# Altium schematic symbol library IC.SchLib: 48 symbols (part 1 of 3)
Pins are listed as number, name and electrical type; pins without a type are passive.

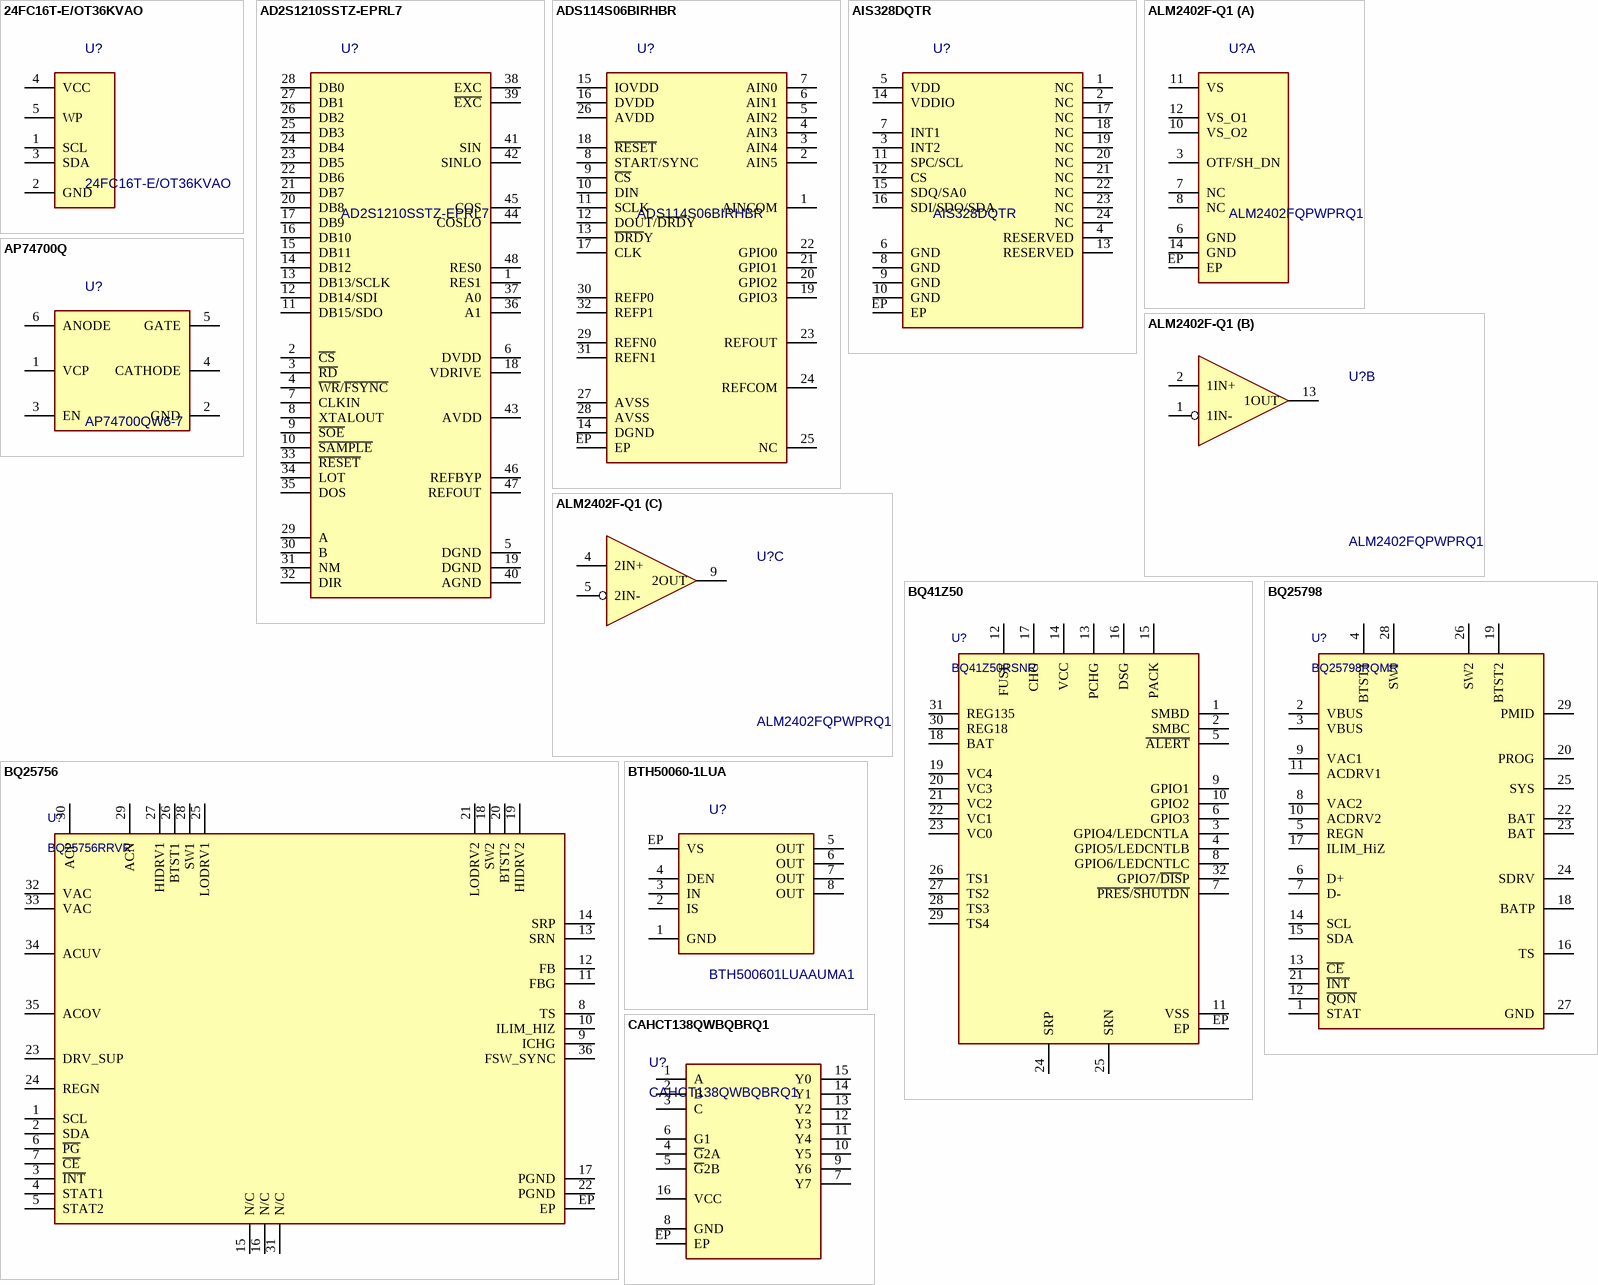
[diagram p0: symbols 24FC16T-E/OT36KVAO to CAHCT138QWBQBRQ1]

## 24FC16T-E/OT36KVAO
designator U?
IC EEPROM 16KBIT I2C SOT23-5 EEPROM Memory IC 16Kbit I2C 1 MHz 450 ns SOT-23-5; Manufacturer: Microchip; Supplier 1: DigiKey; Supplier Part Number 1: 150-24FC16T-E/OT36KVAOTR-ND; Supplier: DigiKey; Supplier Part Number: 150-24FC16T-E/OT36KVAOTR-ND; Manufacturer Part Number: 24FC16T-E/OT36KVAO; Category: Memory; Pricing: 3000=0,34 (USD); Projected EOL Date: 2049-08-26; Case/Package: SOT-23; Country of Assembly: Thailand; Country of Fabrication: United States of America; Country of Origin: Thailand; Export Control Classification Number (ECCN) Code: EAR99; Harmonized Tariff Schedule (HTS) Code: 8542.32.0051; Introduction Date: 2021-08-26; Lifecycle Status: Production; Pins: 5; ComponentLink1URL: https://datasheet.octopart.com:443/24FC16T-E-OT36KVAO-Microchip-datasheet-159614128.pdf?src-supplier=Microchip; ComponentLink1Description: https://datasheet.octopart.com:443/24FC16T-E-OT36KVAO-Microchip-datasheet-159614128.pdf?src-supplier=Microchip; ComponentLink2URL: https://datasheet.octopart.com:443/24FC16T-E-OT36KVAO-Microchip-datasheet-185420243.pdf?src-supplier=Microchip; ComponentLink2Description: https://datasheet.octopart.com:443/24FC16T-E-OT36KVAO-Microchip-datasheet-185420243.pdf?src-supplier=Microchip; ComponentLink3URL: https://datasheet.octopart.com:443/24FC16T-E-OT36KVAO-Microchip-datasheet-138123575.pdf?src-supplier=Augswan; ComponentLink3Description: https://datasheet.octopart.com:443/24FC16T-E-OT36KVAO-Microchip-datasheet-138123575.pdf?src-supplier=Augswan; ComponentLink4URL: http://sigma.octopart.com:80/188449423/materials_sheet/Microchip-24FC16T-E-OT36KVAO.pdf?src-supplier=Compliance+Statements; ComponentLink4Description: http://sigma.octopart.com:80/188449423/materials_sheet/Microchip-24FC16T-E-OT36KVAO.pdf?src-supplier=Compliance+Statements; ComponentLink5URL: http://sigma.octopart.com:80/conflict_mineral_statement/Microchip-company-68.pdf?src-supplier=Compliance+Statements; ComponentLink5Description: http://sigma.octopart.com:80/conflict_mineral_statement/Microchip-company-68.pdf?src-supplier=Compliance+Statements; ComponentLink6URL: http://sigma.octopart.com:80/conflict_mineral_statement/Microchip-company-69.pdf?src-supplier=Compliance+Statements; ComponentLink6Description: http://sigma.octopart.com:80/conflict_mineral_statement/Microchip-company-69.pdf?src-supplier=Compliance+Statements; ComponentLink7URL: http://sigma.octopart.com:80/reach_statement/Microchip-company-70.pdf?src-supplier=Compliance+Statements; ComponentLink7Description: http://sigma.octopart.com:80/reach_statement/Microchip-company-70.pdf?src-supplier=Compliance+Statements; ComponentLink8URL: http://sigma.octopart.com:80/rohs_statement/Microchip-company-71.pdf?src-supplier=Compliance+Statements; ComponentLink8Description: http://sigma.octopart.com:80/rohs_statement/Microchip-company-71.pdf?src-supplier=Compliance+Statements
footprint SOT-23-5 (5-Pin, Small Outline Transistor  Plastic Package (SOT23))
pins: 1 SCL, 2 GND, 3 SDA, 4 VCC, 5 WP

## AD2S1210SSTZ-EPRL7
designator U?
Variable Resolution, 10-Bit to 16-Bit R/D Converter with Reference Oscillator; Manufacturer: Analog Devices; Manufacturer Lifecycle Status: PRODUCTION; Interface: Parallel; Max Supply Voltage: 5.25V; Min Supply Voltage: 2.3V; Number of Channels: 2; Number of Converters: 1; Supplier 1: DigiKey; Supplier Part Number 1: 505-AD2S1210SSTZ-EPRL7CT-ND; Supplier: DigiKey; Supplier Part Number: 505-AD2S1210SSTZ-EPRL7CT-ND; Manufacturer Part Number: AD2S1210SSTZ-EPRL7; RoHS: Compliant; Category: Analog to Digital Converters (ADCs); Stock: 1388; Pricing: 1=36,68, 10=27,104, 25=24,95 (USD); Height: 1.6mm; Lifecycle Status: Production; Max Operating Temperature: 125°C; Min Operating Temperature: -40°C; Pins: 48; Schedule B: 8542390000, 8542390000|8542390000|8542390000|8542390000|8542390000|8542390000|8542390000|8542390000|8542390000|8542390000|8542390000|8542390000|8542390000|8542390000|8542390000|8542390000|8542390000|8542390000|8542390000|8542390000|8542390000|8542390000|8542390000|85; ComponentLink1URL: https://octopart.com:443/opatz8j6/c1?t=k6fJq6adrThdFycxtWTAnGFkOg80_DDUf2LogCT04gbzbe5BdBYrLFXnxFNandYyDPTV6rZWvFV2u5dAnLu4JsdXWEnecjpqc8hWMCwqGekMMp6kHhXDZa9P5HJITyOD5-VOaIhH71EaW9V9387lyfDJyPC-cQ1uiwGWwiloigfyQoUQQpcB8iB8RNLaBlcKqWrCL5SUsZXmx1U_xgDZKDZnY-eyE1vsltANIZMxL3YaJqaBAjg57PlAWL_CwrTWUsNp9kqOjzd23eczO6wHPI3Gh1TFdUTDlWJM4gP7Q3B-9ihoeQ81fcS2&src-supplier=Analog+Devices; ComponentLink1Description: https://octopart.com:443/opatz8j6/c1?t=k6fJq6adrThdFycxtWTAnGFkOg80_DDUf2LogCT04gbzbe5BdBYrLFXnxFNandYyDPTV6rZWvFV2u5dAnLu4JsdXWEnecjpqc8hWMCwqGekMMp6kHhXDZa9P5HJITyOD5-VOaIhH71EaW9V9387lyfDJyPC-cQ1uiwGWwiloigfyQoUQQpcB8iB8RNLaBlcKqWrCL5SUsZXmx1U_xgDZKDZnY-eyE1vsltANIZMxL3YaJqaBAjg57PlAWL_CwrTWUsNp9kqOjzd23eczO6wHPI3Gh1TFdUTDlWJM4gP7Q3B-9ihoeQ81fcS2&src-supplier=Analog+Devices; ComponentLink2URL: https://datasheet.octopart.com:443/AD2S1210SSTZ-EPRL7-Analog-Devices-datasheet-155502637.pdf?src-supplier=Upverter; ComponentLink2Description: https://datasheet.octopart.com:443/AD2S1210SSTZ-EPRL7-Analog-Devices-datasheet-155502637.pdf?src-supplier=Upverter; ComponentLink3URL: https://sigma.octopart.com:443/138896181/technical_drawing/Analog-Devices-AD2S1210SSTZ-EPRL7.pdf?src-supplier=Upverter; ComponentLink3Description: https://sigma.octopart.com:443/138896181/technical_drawing/Analog-Devices-AD2S1210SSTZ-EPRL7.pdf?src-supplier=Upverter; ComponentLink4URL: https://datasheet.octopart.com:443/AD2S1210SSTZ-EPRL7-Analog-Devices-datasheet-15541385.pdf?src-supplier=SHENGYU+ELECTRONICS; ComponentLink4Description: https://datasheet.octopart.com:443/AD2S1210SSTZ-EPRL7-Analog-Devices-datasheet-15541385.pdf?src-supplier=SHENGYU+ELECTRONICS; ComponentLink5URL: http://sigma.octopart.com:80/conflict_mineral_statement/Analog-Devices-company-33.pdf?src-supplier=Compliance+Statements; ComponentLink5Description: http://sigma.octopart.com:80/conflict_mineral_statement/Analog-Devices-company-33.pdf?src-supplier=Compliance+Statements; ComponentLink6URL: https://octopart.com:443/opatz8j6/c1?t=bUe-dHj52XTV9pQd6nvf8dvS-SlRDfG4kQbxo-JYlAUIf5xyTYN7Z74yZGolmkEVrRt14p2BUM1wYeKEmZ3p_PjBWAA9WCOR7G2CpJiKyGnar8Vuh7Hn9xVCu4BotM6DQhgv_nRphq5yYxQKxMDDqcZDafTpRiVNhaQkisKsT5PHNe5ktrcX3E6RzgxdIKQpGzV0TbFFt98g9YpT0LzNZjnccmwLyscWakWMjV_IP_gC4saAMPg4JPa585gSA3GixtayfKwqboOU7rvKB-6P3cz7o3LBbqMbDrEzvUjUsAv5-Xk-PQxoKxCz&src-supplier=Compliance+Statements; ComponentLink6Description: https://octopart.com:443/opatz8j6/c1?t=bUe-dHj52XTV9pQd6nvf8dvS-SlRDfG4kQbxo-JYlAUIf5xyTYN7Z74yZGolmkEVrRt14p2BUM1wYeKEmZ3p_PjBWAA9WCOR7G2CpJiKyGnar8Vuh7Hn9xVCu4BotM6DQhgv_nRphq5yYxQKxMDDqcZDafTpRiVNhaQkisKsT5PHNe5ktrcX3E6RzgxdIKQpGzV0TbFFt98g9YpT0LzNZjnccmwLyscWakWMjV_IP_gC4saAMPg4JPa585gSA3GixtayfKwqboOU7rvKB-6P3cz7o3LBbqMbDrEzvUjUsAv5-Xk-PQxoKxCz&src-supplier=Compliance+Statements
footprint LQFP48 (48 Pin, Body 7x7x1.4)
pins: 1 RES1, 2 ~{CS}, 3 ~{RD}, 4 ~{WR}/~{FSYNC}, 5 DGND, 6 DVDD, 7 CLKIN, 8 XTALOUT, 9 ~{SOE}, 10 ~{SAMPLE}, 11 DB15/SDO, 12 DB14/SDI, 13 DB13/SCLK, 14 DB12, 15 DB11, 16 DB10, 17 DB9, 18 VDRIVE, 19 DGND, 20 DB8, 21 DB7, 22 DB6, 23 DB5, 24 DB4, 25 DB3, 26 DB2, 27 DB1, 28 DB0, 29 A, 30 B, 31 NM, 32 DIR, 33 ~{RESET}, 34 LOT, 35 DOS, 36 A1, 37 A0, 38 EXC, 39 ~{EXC}, 40 AGND, 41 SIN, 42 SINLO, 43 AVDD, 44 COSLO, 45 COS, 46 REFBYP, 47 REFOUT, 48 RES0

## ADS114S06BIRHBR
designator U?
IC ADC 16BIT SIGMA-DELTA 32VQFN; Manufacturer: Texas Instruments; Supplier: Digikey; Supplier Part Number: 296-50878-2-ND; Manufacturer Part Number: ADS114S06BIRHBR; RoHS: Yes; Category: Analog to Digital Converters (ADCs); Pricing: 3000=3,76815 (USD); ComponentLink1URL: http://www.ti.com/lit/ds/symlink/ads114s06b.pdf?src-supplier=Digikey; ComponentLink1Description: http://www.ti.com/lit/ds/symlink/ads114s06b.pdf?src-supplier=Digikey; ComponentLink2URL: http://www.ti.com/lit/pdf/slyy041?src-supplier=Digikey; ComponentLink2Description: http://www.ti.com/lit/pdf/slyy041?src-supplier=Digikey; Supplier 1: Digikey; Supplier Part Number 1: 296-50878-2-ND
footprint VQFN32 (VQFN, 32-Leads, Body 5x5mm)
pins: 1 AINCOM, 2 AIN5, 3 AIN4, 4 AIN3, 5 AIN2, 6 AIN1, 7 AIN0, 8 START/SYNC, 9 ~{CS}, 10 DIN, 11 SCLK, 12 DOUT/~{DRD}Y, 13 ~{DRD}Y, 14 DGND, 15 IOVDD, 16 DVDD, 17 CLK, 18 ~{RESET}, 19 GPIO3, 20 GPIO2, 21 GPIO1, 22 GPIO0, 23 REFOUT, 24 REFCOM, 25 NC, 26 AVDD, 27 AVSS, 28 AVSS, 29 REFN0, 30 REFP0, 31 REFN1, 32 REFP1, EP

## AIS328DQTR
designator U?
High-performance ultra low-power 3-axis accelerometer | ACCELEROMETER 2-8G I2C/SPI 24QFN; Manufacturer: STMicroelectronics; Axis: X, Y, Z; Bandwidth: 500Hz; Max Supply Voltage: 3.6V; Min Supply Voltage: 2.4V; Nominal Supply Current: 450µA; Number of Circuits: 1; Operating Supply Voltage: 3.3V; Output Type: Digital; Supplier 1: DigiKey; Supplier Part Number 1: 497-13219-1-ND; Supplier: DigiKey; Supplier Part Number: 497-13219-1-ND; Manufacturer Part Number: AIS328DQTR; RoHS: Compliant; Category: Accelerometers; Stock: 11747; Pricing: 1=7,44, 5=6,716, 10=6,444, 25=6,1204, 50=5,8992, 100=5,6965, 500=5,508 (USD); Case/Package: QFN; China RoHS: Compliant; Contact Plating: Tin; Height - Seated (Max): 1.85mm; Lead Free: Lead Free; Length: 4mm; Lifecycle Status: Production; Max Operating Temperature: 105°C; Min Operating Temperature: -40°C; Mounting Technology: Surface Mount; Pins: 24; Number of Terminals: 24; Packaging: Tape & Reel; Radiation Hardening: No; REACH SVHC: Yes; Schedule B: 8542390000, 8542390000|8542390000|8542390000|8542390000|8542390000|8542390000|8542390000|8542390000|8542390000|8542390000|8542390000|8542390000|8542390000|8542390000|8542390000|8542390000|8542390000|8542390000|8542390000|8542390000|8542390000|8542390000|8542390000|85; Terminal Pitch: 500µm; Width: 4mm; ComponentLink1URL: https://datasheet.octopart.com:443/AIS328DQTR-STMicroelectronics-datasheet-12523467.pdf?src-supplier=Newark; ComponentLink1Description: https://datasheet.octopart.com:443/AIS328DQTR-STMicroelectronics-datasheet-12523467.pdf?src-supplier=Newark; ComponentLink2URL: https://datasheet.octopart.com:443/AIS328DQTR-STMicroelectronics-datasheet-10836675.pdf?src-supplier=Factory+Futures; ComponentLink2Description: https://datasheet.octopart.com:443/AIS328DQTR-STMicroelectronics-datasheet-10836675.pdf?src-supplier=Factory+Futures; ComponentLink3URL: https://datasheet.octopart.com:443/AIS328DQTR-STMicroelectronics-datasheet-141402747.pdf?src-supplier=element14+APAC; ComponentLink3Description: https://datasheet.octopart.com:443/AIS328DQTR-STMicroelectronics-datasheet-141402747.pdf?src-supplier=element14+APAC
footprint VQFN24 (VQFN, 16-Leads, Body 4x4mm)
pins: 1 NC, 2 NC, 3 INT2, 4 RESERVED, 5 VDD, 6 GND, 7 INT1, 8 GND, 9 GND, 10 GND, 11 SPC/SCL, 12 CS, 13 RESERVED, 14 VDDIO, 15 SDQ/SA0, 16 SDI/SDO/SDA, 17 NC, 18 NC, 19 NC, 20 NC, 21 NC, 22 NC, 23 NC, 24 NC, EP

## ALM2402F-Q1
designator U?, comment ALM2402FQPWPRQ1
Dual operational amplifier with high current output and slew rate 14-HTSSOP -40 to 125; Manufacturer: Texas Instruments; Manufacturer Lifecycle Status: ACTIVE; Input Bias Current: 3.5nA; Input Offset Voltage (Vos): 1mV; Max Supply Voltage: 16V; Min Supply Voltage: 4.5V; Number of Channels: 2; Output Current per Channel: 400mA; Response Time: 2µs; Voltage Gain: 93dB; Supplier 1: DigiKey; Supplier Part Number 1: 296-ALM2402FQPWPRQ1CT-ND; Supplier: DigiKey; Supplier Part Number: 296-ALM2402FQPWPRQ1CT-ND; Manufacturer Part Number: ALM2402FQPWPRQ1; RoHS: Compliant; Category: Amplifiers - Op Amps, Buffer, Instrumentation; Stock: 2833; Pricing: 1=3,33, 10=2,502, 25=2,2952, 100=2,0672, 250=1,95848, 500=1,89296, 1000=1,83904 (USD); Ambient Temperature Range High: 125°C; Height: 1.2mm; Length: 5mm; Lifecycle Status: Production; Max Operating Temperature: 125°C; Min Operating Temperature: -40°C; Pins: 14; Thickness: 1mm; Width: 4.4mm; ComponentLink1URL: https://sigma.octopart.com:443/159569814/technical_drawing/Texas-Instruments-ALM2402FQPWPRQ1.pdf?src-supplier=Texas+Instruments; ComponentLink1Description: https://sigma.octopart.com:443/159569814/technical_drawing/Texas-Instruments-ALM2402FQPWPRQ1.pdf?src-supplier=Texas+Instruments; ComponentLink2URL: https://octopart.com:443/opatz8j6/c1?t=ZPJvvuPEpGpES_y9EoHHU01kErOd9eZN7Gx7z2LTZC5bpM9zJnn1LW-JbGqNri5mz2O5lzJ6UhfOc46BO5zOXJrvDKm0VlnxasqbOLQLOgbPoqEdQG3t9SYm2umos89xdDxf0XR27TUST3JNQlDir6P_KbZ1PxZHW9d-RdisXjF-EWsCDIFtIXJ6PS1KiiVKRk2qpXgEQkvnhlyRkUvVqJJgydVmn0OgYlFDpXYimEwaFlUpuIdaDGZmuFo_-uwRGj4YbJSrjYeBWO0Q_-UyrcG1wvn-j-xBbbnvHOa98eOF4czOQdpe2uraEiOfYVpG4pgI5ze8N1Yo4dbsKj3lJ-AfM_D9BxtgFVry6fSkeAtcCVjhbb--6O4yKaCOhRt7Vqt9W7T5dZ7d6Q&src-supplier=Texas+Instruments; ComponentLink2Description: https://octopart.com:443/opatz8j6/c1?t=ZPJvvuPEpGpES_y9EoHHU01kErOd9eZN7Gx7z2LTZC5bpM9zJnn1LW-JbGqNri5mz2O5lzJ6UhfOc46BO5zOXJrvDKm0VlnxasqbOLQLOgbPoqEdQG3t9SYm2umos89xdDxf0XR27TUST3JNQlDir6P_KbZ1PxZHW9d-RdisXjF-EWsCDIFtIXJ6PS1KiiVKRk2qpXgEQkvnhlyRkUvVqJJgydVmn0OgYlFDpXYimEwaFlUpuIdaDGZmuFo_-uwRGj4YbJSrjYeBWO0Q_-UyrcG1wvn-j-xBbbnvHOa98eOF4czOQdpe2uraEiOfYVpG4pgI5ze8N1Yo4dbsKj3lJ-AfM_D9BxtgFVry6fSkeAtcCVjhbb--6O4yKaCOhRt7Vqt9W7T5dZ7d6Q&src-supplier=Texas+Instruments; ComponentLink3URL: https://sigma.octopart.com:443/49250594/technical_drawing/Texas-Instruments-ALM2402FQPWPRQ1.pdf?src-supplier=Texas+Instruments; ComponentLink3Description: https://sigma.octopart.com:443/49250594/technical_drawing/Texas-Instruments-ALM2402FQPWPRQ1.pdf?src-supplier=Texas+Instruments; ComponentLink4URL: https://datasheet.octopart.com:443/ALM2402FQPWPRQ1-Texas-Instruments-datasheet-151121670.pdf?src-supplier=SHENGYU+ELECTRONICS; ComponentLink4Description: https://datasheet.octopart.com:443/ALM2402FQPWPRQ1-Texas-Instruments-datasheet-151121670.pdf?src-supplier=SHENGYU+ELECTRONICS; ComponentLink5URL: http://sigma.octopart.com:80/conflict_mineral_statement/Texas-Instruments-company-63.pdf?src-supplier=Compliance+Statements; ComponentLink5Description: http://sigma.octopart.com:80/conflict_mineral_statement/Texas-Instruments-company-63.pdf?src-supplier=Compliance+Statements; ComponentLink6URL: http://sigma.octopart.com:80/reach_statement/Texas-Instruments-company-64.pdf?src-supplier=Compliance+Statements; ComponentLink6Description: http://sigma.octopart.com:80/reach_statement/Texas-Instruments-company-64.pdf?src-supplier=Compliance+Statements
footprint TSSOP-14-EP (14-TSSOP (0.173", 4.40mm Width))
part A pins: 3 OTF/SH_DN, 6 GND, 7 NC, 8 NC, 10 VS_O2, 11 VS, 12 VS_O1, 14 GND, EP
part B pins: 1 1IN-, 2 1IN+, 13 1OUT
part C pins: 4 2IN+, 5 2IN-, 9 2OUT

## AP74700Q
designator U?, comment AP74700QW6-7
LOAD SWITCH SOT26 T&R 3K; Manufacturer: Diodes; Number of Channels: 1; Supplier 1: Digikey; Supplier Part Number 1: 31-AP74700QW6-7CT-ND; Supplier: Digikey; Supplier Part Number: 31-AP74700QW6-7CT-ND; Manufacturer Part Number: AP74700QW6-7; RoHS: No; Category: Uncategorized; Stock: 1056; Pricing: 1=1,23, 10=0,748, 25=0,6224, 100=0,4805, 250=0,41084, 500=0,36796, 1000=0,33204 (USD); ComponentLink1URL: https://datasheet.octopart.com/AP74700QW6-7-Diodes-Inc.-datasheet-165818440.pdf?src-supplier=Future+Electronics; ComponentLink1Description: https://datasheet.octopart.com/AP74700QW6-7-Diodes-Inc.-datasheet-165818440.pdf?src-supplier=Future+Electronics
footprint SOT26 (SOT-26 - 6pin, 3x3.1mm)
pins: 1 VCP, 2 GND, 3 EN, 4 CATHODE, 5 GATE, 6 ANODE

## BQ41Z50
designator U?, comment BQ41Z50RSNR
2 to 4 series Li-ion highly integrated battery fuel gauge and protector 32-QFN -40 to 85; Manufacturer: Texas Instruments; Manufacturer Lifecycle Status: ACTIVE; Supplier 1: DigiKey; Supplier Part Number 1: 296-BQ41Z50RSNRCT-ND; Supplier: DigiKey; Supplier Part Number: 296-BQ41Z50RSNRCT-ND; Manufacturer Part Number: BQ41Z50RSNR; RoHS: Compliant; Category: Battery Management; Stock: 1851; Pricing: 1=5,55, 10=4,246, 25=3,9192, 100=3,5599, 250=3,38876, 500=3,28558, 1000=3,20063 (USD); Height: 800µm; Length: 4mm; Lifecycle Status: Production; Pins: 32; Thickness: 750µm; Width: 4mm; ComponentLink1URL: https://sigma.octopart.com:443/189718236/technical_drawing/Texas-Instruments-BQ41Z50RSNR.pdf?src-supplier=Texas+Instruments; ComponentLink1Description: https://sigma.octopart.com:443/189718236/technical_drawing/Texas-Instruments-BQ41Z50RSNR.pdf?src-supplier=Texas+Instruments; ComponentLink2URL: https://octopart.com:443/opatz8j6/c1?t=TSHOvo4lcCG09GQtGsyYGYrG5ebfY15oncaDagXwiw1dRk6UlXLULpBPciz2aRybJtMUn7Uj9XPnsGP7mBmdYw3-fd3ZaiqP3piYkPBcaeP4ZrfppAvWOsNsBrkaiauqSTo1ezVDrtljwgKD7vryttAQkyfgveS-TB0Xea2x2If99O1EXmgW--o9g_JHmgDGhVDNqzp4jgizunIPmWB0k021L5mOS6yvKjicdbQBFttyVRdgFGc1RtNCu9CLkop523qEj2pXpYzj5dV3-n9CjYtRfYYrXibyoob4tWijr7bHacxq_PqsAC283w4DVDz-wVBSFOmveujaasoD3Bs_tf-SbQsLNg8Dj1iKSZfS1O68xdoLb5h6LxNVt6LDhmI7fwPEFQQZ&src-supplier=Texas+Instruments; ComponentLink2Description: https://octopart.com:443/opatz8j6/c1?t=TSHOvo4lcCG09GQtGsyYGYrG5ebfY15oncaDagXwiw1dRk6UlXLULpBPciz2aRybJtMUn7Uj9XPnsGP7mBmdYw3-fd3ZaiqP3piYkPBcaeP4ZrfppAvWOsNsBrkaiauqSTo1ezVDrtljwgKD7vryttAQkyfgveS-TB0Xea2x2If99O1EXmgW--o9g_JHmgDGhVDNqzp4jgizunIPmWB0k021L5mOS6yvKjicdbQBFttyVRdgFGc1RtNCu9CLkop523qEj2pXpYzj5dV3-n9CjYtRfYYrXibyoob4tWijr7bHacxq_PqsAC283w4DVDz-wVBSFOmveujaasoD3Bs_tf-SbQsLNg8Dj1iKSZfS1O68xdoLb5h6LxNVt6LDhmI7fwPEFQQZ&src-supplier=Texas+Instruments; ComponentLink3URL: http://sigma.octopart.com:80/conflict_mineral_statement/Texas-Instruments-company-63.pdf?src-supplier=Compliance+Statements; ComponentLink3Description: http://sigma.octopart.com:80/conflict_mineral_statement/Texas-Instruments-company-63.pdf?src-supplier=Compliance+Statements; ComponentLink4URL: http://sigma.octopart.com:80/reach_statement/Texas-Instruments-company-64.pdf?src-supplier=Compliance+Statements; ComponentLink4Description: http://sigma.octopart.com:80/reach_statement/Texas-Instruments-company-64.pdf?src-supplier=Compliance+Statements
footprint VQFN32 (VQFN, 32-Leads, Body 5x5mm)
pins: 1 SMBD, 2 SMBC, 3 GPIO4/LEDCNTLA, 4 GPIO5/LEDCNTLB, 5 ~{ALERT}, 6 GPIO3, 7 ~{PRES}/~{SHUTDN}, 8 GPIO6/LEDCNTLC, 9 GPIO1, 10 GPIO2, 11 VSS, 12 FUSE, 13 PCHG, 14 VCC, 15 PACK, 16 DSG, 17 CHG, 18 BAT, 19 VC4, 20 VC3, 21 VC2, 22 VC1, 23 VC0, 24 SRP, 25 SRN, 26 TS1, 27 TS2, 28 TS3, 29 TS4, 30 REG18, 31 REG135, 32 GPIO7/~{DIS}P, EP

## BQ25756
designator U?, comment BQ25756RRVR
STAND-ALONE OR IC CONTROLLED 70- Charger IC Multi-Chemistry 36-VQFN (5x6); Manufacturer: Texas Instruments; Manufacturer Lifecycle Status: ACTIVE; Supplier 1: DigiKey; Supplier Part Number 1: 296-BQ25756RRVRCT-ND; Supplier: DigiKey; Supplier Part Number: 296-BQ25756RRVRCT-ND; Manufacturer Part Number: BQ25756RRVR; RoHS: Compliant; Category: Battery Management; Stock: 3338; Pricing: 1=7,03, 10=5,423, 25=5,02, 100=4,5774, 250=4,36628, 500=4,23908, 1000=4,13436 (USD); Case/Package: VQFN; Height: 0m; Length: 6mm; Lifecycle Status: Production; Pins: 36; Thickness: 900µm; Width: 5mm; ComponentLink1URL: https://sigma.octopart.com:443/175475772/technical_drawing/Texas-Instruments-BQ25756RRVR.pdf?src-supplier=Texas+Instruments; ComponentLink1Description: https://sigma.octopart.com:443/175475772/technical_drawing/Texas-Instruments-BQ25756RRVR.pdf?src-supplier=Texas+Instruments; ComponentLink2URL: https://octopart.com:443/opatz8j6/c1?t=42GTeey3_Piq5P3Boh_7VT1sNKRi0J1INbPDC671ubhr-XLBVPaP3qDehkQcPoWuxWRMj_jKC3HyJR2Zqj_181IucPKrVeb5eY55-RfyZBoYewvFsU7NOngJXV2WZ1UHJqWKSNgZfoeCs572sFfIkTFFRSoEKlUbrXPk_Sxe7LpFOw6n-n2CcBPFYfrgheGX5XXyHFHPkNyFudvlZmFkMmasgQmF3CiBOIPPxuGhgrQX1sjyCd0sH-eKiernRKvYzHIgPrPdbN4IsOCQMXG0fgHnyHK58qL7IFAWDw2wx1-43shVfrDi5I1zxcvxGoNdMbxvFYU49vONtnLs14UHCAZ6j6Hm9W4rXUNcPu0VH21cMFMZsUtvfzmqF7pbqZHOyG8mLPI&src-supplier=Texas+Instruments; ComponentLink2Description: https://octopart.com:443/opatz8j6/c1?t=42GTeey3_Piq5P3Boh_7VT1sNKRi0J1INbPDC671ubhr-XLBVPaP3qDehkQcPoWuxWRMj_jKC3HyJR2Zqj_181IucPKrVeb5eY55-RfyZBoYewvFsU7NOngJXV2WZ1UHJqWKSNgZfoeCs572sFfIkTFFRSoEKlUbrXPk_Sxe7LpFOw6n-n2CcBPFYfrgheGX5XXyHFHPkNyFudvlZmFkMmasgQmF3CiBOIPPxuGhgrQX1sjyCd0sH-eKiernRKvYzHIgPrPdbN4IsOCQMXG0fgHnyHK58qL7IFAWDw2wx1-43shVfrDi5I1zxcvxGoNdMbxvFYU49vONtnLs14UHCAZ6j6Hm9W4rXUNcPu0VH21cMFMZsUtvfzmqF7pbqZHOyG8mLPI&src-supplier=Texas+Instruments; ComponentLink3URL: https://sigma.octopart.com:443/175417745/technical_drawing/Texas-Instruments-BQ25756RRVR.pdf?src-supplier=Texas+Instruments; ComponentLink3Description: https://sigma.octopart.com:443/175417745/technical_drawing/Texas-Instruments-BQ25756RRVR.pdf?src-supplier=Texas+Instruments; ComponentLink4URL: http://sigma.octopart.com:80/conflict_mineral_statement/Texas-Instruments-company-63.pdf?src-supplier=Compliance+Statements; ComponentLink4Description: http://sigma.octopart.com:80/conflict_mineral_statement/Texas-Instruments-company-63.pdf?src-supplier=Compliance+Statements; ComponentLink5URL: http://sigma.octopart.com:80/reach_statement/Texas-Instruments-company-64.pdf?src-supplier=Compliance+Statements; ComponentLink5Description: http://sigma.octopart.com:80/reach_statement/Texas-Instruments-company-64.pdf?src-supplier=Compliance+Statements
footprint VQFN36(5x6) (VQFN, 32-Leads, Body 5x6mm)
pins: 1 SCL, 2 SDA, 3 ~{INT}, 4 STAT1, 5 STAT2, 6 ~{PG}, 7 ~{CE}, 8 TS, 9 ICHG, 10 ILIM_HIZ, 11 FBG, 12 FB, 13 SRN, 14 SRP, 15 N/C, 16 N/C, 17 PGND, 18 SW2, 19 HIDRV2, 20 BTST2, 21 LODRV2, 22 PGND, 23 DRV_SUP, 24 REGN, 25 LODRV1, 26 BTST1, 27 HIDRV1, 28 SW1, 29 ACN, 30 ACP, 31 N/C, 32 VAC, 33 VAC, 34 ACUV, 35 ACOV, 36 FSW_SYNC, EP

## BQ25798
designator U?, comment BQ25798RQMR
"IC CONTROLLED, 1-4-CELL, 5-A BUC" Charger IC Lithium Ion/Polymer 29-VQFN-HR (4x4); Manufacturer: Texas Instruments; Manufacturer Lifecycle Status: ACTIVE; Supplier: DigiKey; Supplier Part Number: 296-BQ25798RQMRCT-ND; Manufacturer Part Number: BQ25798RQMR; RoHS: Compliant; Category: Battery Management; Stock: 10382; Pricing: 1=5,05, 10=3,849, 25=3,5488, 100=3,2185, 250=3,06116, 500=2,96628, 1000=2,88821 (USD); Height: 1mm; Length: 4mm; Lifecycle Status: Production; Pins: 29; Thickness: 900µm; Width: 4mm; ComponentLink1URL: https://octopart.com:443/opatz8j6/c1?t=AtbO8efry2WTN2gFjtgBxMY6LZuHejqxDvY6ixiIvgUIlWKbW9fW-RVSVa1ieIUozK2vE766ljDbOHGZGH03IvkCoLKfos1gr7JTpEROYBWXUIFmi9vS1bRZaFtq9ovUaopKUvHvxSat-rZUgPR4kKa1csP8HFO3XFUKRJVFHtIArN3-5fJZLbbnR5tuL3X2fFGkaduU03U0R-QXXC5J0fddv3HMakQvxGu3tH9CRsaQvM9RUYAnAI2LDAiyIt7lZPCgSG2pGluG7M6wHzqvlVdZt9mUXywXW08Wke4p8Pdwv_eYWhXFCWt5SU4RIwp_KYu38d-xu1UE92EsJWvcTANIaIWo9W-7ZKf8WclIGYQujn-4dek7zCL43wLQxBDIoJ7yRiIW&src-supplier=Texas+Instruments; ComponentLink1Description: https://octopart.com:443/opatz8j6/c1?t=AtbO8efry2WTN2gFjtgBxMY6LZuHejqxDvY6ixiIvgUIlWKbW9fW-RVSVa1ieIUozK2vE766ljDbOHGZGH03IvkCoLKfos1gr7JTpEROYBWXUIFmi9vS1bRZaFtq9ovUaopKUvHvxSat-rZUgPR4kKa1csP8HFO3XFUKRJVFHtIArN3-5fJZLbbnR5tuL3X2fFGkaduU03U0R-QXXC5J0fddv3HMakQvxGu3tH9CRsaQvM9RUYAnAI2LDAiyIt7lZPCgSG2pGluG7M6wHzqvlVdZt9mUXywXW08Wke4p8Pdwv_eYWhXFCWt5SU4RIwp_KYu38d-xu1UE92EsJWvcTANIaIWo9W-7ZKf8WclIGYQujn-4dek7zCL43wLQxBDIoJ7yRiIW&src-supplier=Texas+Instruments; ComponentLink2URL: https://datasheet.octopart.com:443/BQ25798RQMR-Texas-Instruments-datasheet-165811120.pdf?src-supplier=Augswan; ComponentLink2Description: https://datasheet.octopart.com:443/BQ25798RQMR-Texas-Instruments-datasheet-165811120.pdf?src-supplier=Augswan; ComponentLink3URL: https://datasheet.octopart.com:443/BQ25798RQMR-Texas-Instruments-datasheet-178849203.pdf?src-supplier=LCSC; ComponentLink3Description: https://datasheet.octopart.com:443/BQ25798RQMR-Texas-Instruments-datasheet-178849203.pdf?src-supplier=LCSC; ComponentLink4URL: http://sigma.octopart.com:80/conflict_mineral_statement/Texas-Instruments-company-63.pdf?src-supplier=Compliance+Statements; ComponentLink4Description: http://sigma.octopart.com:80/conflict_mineral_statement/Texas-Instruments-company-63.pdf?src-supplier=Compliance+Statements; ComponentLink5URL: http://sigma.octopart.com:80/reach_statement/Texas-Instruments-company-64.pdf?src-supplier=Compliance+Statements; ComponentLink5Description: http://sigma.octopart.com:80/reach_statement/Texas-Instruments-company-64.pdf?src-supplier=Compliance+Statements; Supplier 1: DigiKey; Supplier Part Number 1: 296-BQ25798RQMRCT-ND
footprint VQFN29-HR (VQFN29, 32-Leads, Body 4x4mm)
pins: 1 STAT, 2 VBUS, 3 VBUS, 4 BTST1, 5 REGN, 6 D+, 7 D-, 8 VAC2, 9 VAC1, 10 ACDRV2, 11 ACDRV1, 12 ~{QON}, 13 ~{CE}, 14 SCL, 15 SDA, 16 TS, 17 ILIM_HiZ, 18 BATP, 19 BTST2, 20 PROG, 21 ~{INT}, 22 BAT, 23 BAT, 24 SDRV, 25 SYS, 26 SW2, 27 GND, 28 SW1, 29 PMID

## BTH50060-1LUA
designator U?, comment BTH500601LUAAUMA1
Power Load Sw, High Side, 150DEGC, HSOF8;; Manufacturer: Infineon; Supplier 1: DigiKey; Supplier Part Number 1: 448-BTH500601LUAAUMA1CT-ND; Supplier: DigiKey; Supplier Part Number: 448-BTH500601LUAAUMA1CT-ND; Manufacturer Part Number: BTH500601LUAAUMA1; Category: Power Switch ICs - Power Distribution; Stock: 3526; Pricing: 1=4,49, 10=3,408, 25=3,1372, 100=2,8399, 250=2,69812, 500=2,61266, 1000=2,54235 (USD); ComponentLink1URL: http://sigma.octopart.com:80/conflict_mineral_statement/Infineon-company-51.pdf?src-supplier=Compliance+Statements; ComponentLink1Description: http://sigma.octopart.com:80/conflict_mineral_statement/Infineon-company-51.pdf?src-supplier=Compliance+Statements
footprint PG-HSOF-8-1 (VQFN, 16-Leads, Body 4x4mm)
pins: 1 GND, 2 IS, 3 IN, 4 DEN, 5 OUT, 6 OUT, 7 OUT, 8 OUT, EP VS

## CAHCT138QWBQBRQ1
designator U?
IC DECODER/DEMUX 1 X 3:8 16-WQFN; Manufacturer: Texas Instruments; Manufacturer Lifecycle Status: ACTIVE; Supplier: DigiKey; Supplier Part Number: 296-CAHCT138QWBQBRQ1CT-ND; Manufacturer Part Number: CAHCT138QWBQBRQ1; RoHS: Compliant; Category: Integrated Circuits (ICs); Stock: 3000; Pricing: 1=0,69, 10=0,487, 25=0,4376, 100=0,3825, 250=0,35636, 500=0,34058, 1000=0,33507 (USD); Height: 800µm; Length: 3.5mm; Lifecycle Status: Production; Pins: 16; Thickness: 750µm; Width: 2.5mm; ComponentLink1URL: https://octopart.com:443/opatz8j6/c1?t=r6BgkDD2WvoZYG5zPlB5wptxFH1z3sMkWAPi6IDko2PPEjSprLkwyQ4igQPYPFzfGptLnWxKtMcIaCqGgOl4BgX5viiyAP9gIO-2FsIDF_F20-XqV5MqDYnQg0ZA-Ez0fKtFFSRjvUNH6ZkhuLtDXSiLnU1KOJa2uVgXvkRYmS_8bYr_2UeHUU2Ois_2qoP4CquEYZXzafViAlsb4iAhbViNC3nDIavQt9RHiwqb8esSdwmFnfSP1bWyWEgRkTtuPX5uAVDRKX79969s8VjnJE7Gy2dejHqTRMZDFGPeJ9QXpCSTi5jST_yXKOAbofRGJKOkP2d-a-zfoggpYesXviIOd-Zn-aSlwCIVhHEclKGalV1a1nYA4levSNwJTnUFHK1Fkb3yB3BHGlNEmlU&src-supplier=Texas+Instruments; ComponentLink1Description: https://octopart.com:443/opatz8j6/c1?t=r6BgkDD2WvoZYG5zPlB5wptxFH1z3sMkWAPi6IDko2PPEjSprLkwyQ4igQPYPFzfGptLnWxKtMcIaCqGgOl4BgX5viiyAP9gIO-2FsIDF_F20-XqV5MqDYnQg0ZA-Ez0fKtFFSRjvUNH6ZkhuLtDXSiLnU1KOJa2uVgXvkRYmS_8bYr_2UeHUU2Ois_2qoP4CquEYZXzafViAlsb4iAhbViNC3nDIavQt9RHiwqb8esSdwmFnfSP1bWyWEgRkTtuPX5uAVDRKX79969s8VjnJE7Gy2dejHqTRMZDFGPeJ9QXpCSTi5jST_yXKOAbofRGJKOkP2d-a-zfoggpYesXviIOd-Zn-aSlwCIVhHEclKGalV1a1nYA4levSNwJTnUFHK1Fkb3yB3BHGlNEmlU&src-supplier=Texas+Instruments; ComponentLink2URL: http://sigma.octopart.com:80/conflict_mineral_statement/Texas-Instruments-company-63.pdf?src-supplier=Compliance+Statements; ComponentLink2Description: http://sigma.octopart.com:80/conflict_mineral_statement/Texas-Instruments-company-63.pdf?src-supplier=Compliance+Statements; ComponentLink3URL: http://sigma.octopart.com:80/reach_statement/Texas-Instruments-company-64.pdf?src-supplier=Compliance+Statements; ComponentLink3Description: http://sigma.octopart.com:80/reach_statement/Texas-Instruments-company-64.pdf?src-supplier=Compliance+Statements; Supplier 1: DigiKey; Supplier Part Number 1: 296-CAHCT138QWBQBRQ1CT-ND
footprint WQFN-16 (WQFN - 3.5x0.5mm)
pins: 1 A, 2 B, 3 C, 4 ~{G}2A, 5 ~{G}2B, 6 G1, 7 Y7, 8 GND, 9 Y6, 10 Y5, 11 Y4, 12 Y3, 13 Y2, 14 Y1, 15 Y0, 16 VCC, EP

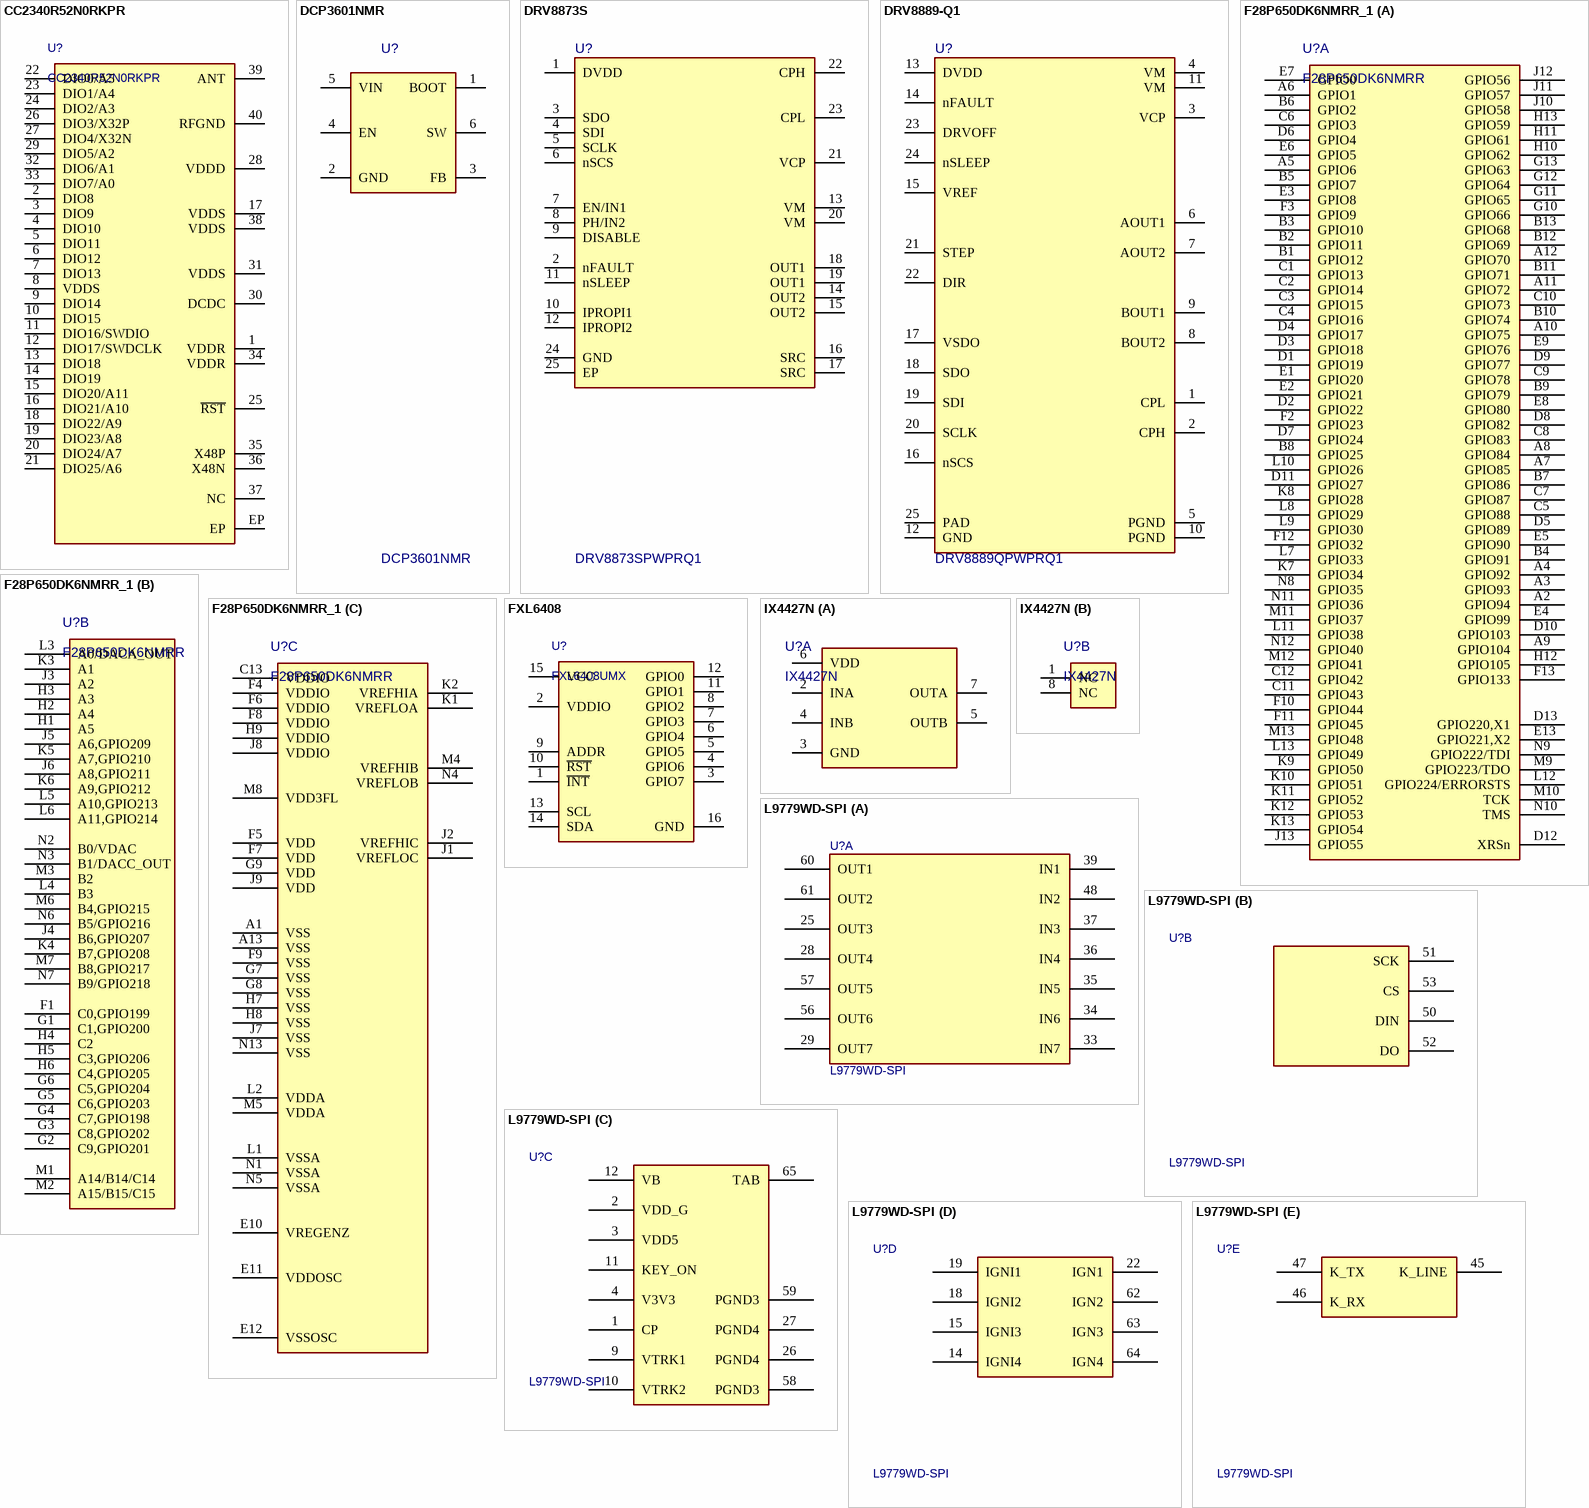
[diagram p1: symbols CC2340R52N0RKPR to L9779WD-SPI]

## CC2340R52N0RKPR
designator U?
SimpleLink™ 32bit Arm® Cortex®-M0+ 2.4GHz wireless MCU with 512kB flash 40-VQFN -40 to 85; Manufacturer: Texas Instruments; Manufacturer Lifecycle Status: ACTIVE; Supplier 1: DigiKey; Supplier Part Number 1: 296-CC2340R52N0RKPRDKR-ND; Supplier: DigiKey; Supplier Part Number: 296-CC2340R52N0RKPRDKR-ND; Manufacturer Part Number: CC2340R52N0RKPR; RoHS: Compliant; Category: RF Receivers, Transceivers; Pricing: 1=2,44, 10=1,81, 25=1,6528, 100=1,4806, 250=1,39848, 500=1,34894, 1000=1,30818 (USD); Case/Package: VQFN; Height: 1mm; Length: 5mm; Lifecycle Status: Production; Pins: 40; Thickness: 900µm; Width: 5mm; ComponentLink1URL: https://sigma.octopart.com:443/169560358/technical_drawing/Texas-Instruments-CC2340R52N0RKPR.pdf?src-supplier=Texas+Instruments; ComponentLink1Description: https://sigma.octopart.com:443/169560358/technical_drawing/Texas-Instruments-CC2340R52N0RKPR.pdf?src-supplier=Texas+Instruments; ComponentLink2URL: https://octopart.com:443/opatz8j6/c1?t=dd9ZbY0txOw28o0nZ2IU_9VWcs24IamySGStmFqIrOK07hB_cZmRwdQLE9PWWcV5q6cAg9F7TXjlX91oSJyYZGUIGXkHzKuWB5WNiVltrdOh1tBtFJSuZ2y7uuQveb546ysDIPSqzLOmrKORNz_XC-E7iTGP9liyWhrmKFumGrQ-mqFWP1Ktgb9zdNACHYvdFMbRpCg4CpymDrIShmAF3jIFrCkrwnCnTllTUwfokCMC4bvjFQyFlPbXIZ4PjrN_hhAGpEmE9IJ5BbiqtXMVSv8oZe82BY6EGq3igrrxe7xglMY06Tyt3L1_0u8IVvaYXBGnExSlWxUf3S8d79Cwrln-KtTcml-eA3pZocen53irTjtJrTCVK5BwmvCFrUHfi_7LixAQ-Q&src-supplier=Texas+Instruments; ComponentLink2Description: https://octopart.com:443/opatz8j6/c1?t=dd9ZbY0txOw28o0nZ2IU_9VWcs24IamySGStmFqIrOK07hB_cZmRwdQLE9PWWcV5q6cAg9F7TXjlX91oSJyYZGUIGXkHzKuWB5WNiVltrdOh1tBtFJSuZ2y7uuQveb546ysDIPSqzLOmrKORNz_XC-E7iTGP9liyWhrmKFumGrQ-mqFWP1Ktgb9zdNACHYvdFMbRpCg4CpymDrIShmAF3jIFrCkrwnCnTllTUwfokCMC4bvjFQyFlPbXIZ4PjrN_hhAGpEmE9IJ5BbiqtXMVSv8oZe82BY6EGq3igrrxe7xglMY06Tyt3L1_0u8IVvaYXBGnExSlWxUf3S8d79Cwrln-KtTcml-eA3pZocen53irTjtJrTCVK5BwmvCFrUHfi_7LixAQ-Q&src-supplier=Texas+Instruments; ComponentLink3URL: https://datasheet.octopart.com:443/CC2340R52N0RKPR-Texas-Instruments-datasheet-187867328.pdf?src-supplier=LCSC; ComponentLink3Description: https://datasheet.octopart.com:443/CC2340R52N0RKPR-Texas-Instruments-datasheet-187867328.pdf?src-supplier=LCSC; ComponentLink4URL: http://sigma.octopart.com:80/conflict_mineral_statement/Texas-Instruments-company-63.pdf?src-supplier=Compliance+Statements; ComponentLink4Description: http://sigma.octopart.com:80/conflict_mineral_statement/Texas-Instruments-company-63.pdf?src-supplier=Compliance+Statements; ComponentLink5URL: http://sigma.octopart.com:80/reach_statement/Texas-Instruments-company-64.pdf?src-supplier=Compliance+Statements; ComponentLink5Description: http://sigma.octopart.com:80/reach_statement/Texas-Instruments-company-64.pdf?src-supplier=Compliance+Statements
pins: 1 VDDR, 2 DIO8, 3 DIO9, 4 DIO10, 5 DIO11, 6 DIO12, 7 DIO13, 8 VDDS, 9 DIO14, 10 DIO15, 11 DIO16/SWDIO, 12 DIO17/SWDCLK, 13 DIO18, 14 DIO19, 15 DIO20/A11, 16 DIO21/A10, 17 VDDS, 18 DIO22/A9, 19 DIO23/A8, 20 DIO24/A7, 21 DIO25/A6, 22 DIO0/A5, 23 DIO1/A4, 24 DIO2/A3, 25 ~{RST}, 26 DIO3/X32P, 27 DIO4/X32N, 28 VDDD, 29 DIO5/A2, 30 DCDC, 31 VDDS, 32 DIO6/A1, 33 DIO7/A0, 34 VDDR, 35 X48P, 36 X48N, 37 NC, 38 VDDS, 39 ANT, 40 RFGND, EP

## DCP3601NMR
designator U?
36 V, 1 A SYNCHRONOUS STEP-DOWN; Manufacturer: STMicroelectronics; Supplier: Digikey; Supplier Part Number: 497-DCP3601NMRCT-ND; Manufacturer Part Number: DCP3601NMR; RoHS: No; Category: Voltage Regulators - Switching; Stock: 1960; Pricing: 1=0,79, 10=0,562, 25=0,5052, 100=0,443, 250=0,41336, 500=0,39546, 1000=0,38074, 2500=0,3652, 5000=0,35584 (USD); Supplier 1: Digikey; Supplier Part Number 1: 497-DCP3601NMRCT-ND
footprint SOT-23-6 (SOT-23, 5-Leads, Body 2.8x1.5mm)
pins: 1 BOOT, 2 GND, 3 FB, 4 EN, 5 VIN, 6 SW

## DRV8873S
designator U?, comment DRV8873SPWPRQ1
IC MTRDRV UNIPLR 0-5.5V 24HTSSOP Unipolar Motor Driver NMOS SPI 24-HTSSOP; Manufacturer: Texas Instruments; Manufacturer Lifecycle Status: ACTIVE; Max Junction Temperature (Tj): 150°C; Max Supply Voltage: 38V; Min Supply Voltage: 4.5V; Motor Type: Brushed; Nominal Supply Current: 5mA; Number of Outputs: 1; Switching Frequency: 400kHz; Supplier: DigiKey; Supplier Part Number: 296-50275-1-ND; Manufacturer Part Number: DRV8873SPWPRQ1; RoHS: Compliant; Category: Motor Drivers; Stock: 6287; Pricing: 1=4,6, 5=4,126, 10=3,949, 25=3,7388, 50=3,5952, 100=3,4635, 500=3,20104 (USD); Ambient Temperature Range High: 125°C; Height: 1.2mm; Length: 7.8mm; Lifecycle Status: Production; Max Operating Temperature: 125°C; Min Operating Temperature: -40°C; Pins: 24; Schedule B: 8542390000, 8542390000|8542390000|8542390000|8542390000|8542390000; Thickness: 1mm; Width: 4.4mm; ComponentLink1URL: https://octopart.com:443/opatz8j6/c1?t=BvrUXf77c037hmq0Opo5ueZ8VXhPHTv-VkrvLEApmVudt6b-DuOv44XL7SjM1yNibxipMj6MRMU6YED3g_3o1zBVK9QefeT-tmmvd0HKKLb3G026IEFapK8Ihecf1Q_SvZFMDJOXbMx8bJVsL_UawQgLs5Jks9xc8FbSuCyGx2HVSeWhi0P4rxDznQReVStBCSsueBDBQ040TryA2wpYGjc4htTFK_GVpIq2Ne25cxBr3Zh2t4uKqkHQurCeACualcnpZoBppUO2V0Vv69asfelVf3L20UF09t1PVYG4z-rSym9zW5XXabn_uFLibJ3i6dHe5_kLmzk7iqR0cYkJvG35OisyikXdra4chr3q6GyDiKI5IKtGCH5cB0H5h83PKmmWDATYZxM&src-supplier=Texas+Instruments; ComponentLink1Description: https://octopart.com:443/opatz8j6/c1?t=BvrUXf77c037hmq0Opo5ueZ8VXhPHTv-VkrvLEApmVudt6b-DuOv44XL7SjM1yNibxipMj6MRMU6YED3g_3o1zBVK9QefeT-tmmvd0HKKLb3G026IEFapK8Ihecf1Q_SvZFMDJOXbMx8bJVsL_UawQgLs5Jks9xc8FbSuCyGx2HVSeWhi0P4rxDznQReVStBCSsueBDBQ040TryA2wpYGjc4htTFK_GVpIq2Ne25cxBr3Zh2t4uKqkHQurCeACualcnpZoBppUO2V0Vv69asfelVf3L20UF09t1PVYG4z-rSym9zW5XXabn_uFLibJ3i6dHe5_kLmzk7iqR0cYkJvG35OisyikXdra4chr3q6GyDiKI5IKtGCH5cB0H5h83PKmmWDATYZxM&src-supplier=Texas+Instruments; ComponentLink2URL: https://sigma.octopart.com:443/49250897/technical_drawing/Texas-Instruments-DRV8873SPWPRQ1.pdf?src-supplier=Texas+Instruments; ComponentLink2Description: https://sigma.octopart.com:443/49250897/technical_drawing/Texas-Instruments-DRV8873SPWPRQ1.pdf?src-supplier=Texas+Instruments; ComponentLink3URL: https://datasheet.octopart.com:443/DRV8873SPWPRQ1-Texas-Instruments-datasheet-149164899.pdf?src-supplier=Upverter; ComponentLink3Description: https://datasheet.octopart.com:443/DRV8873SPWPRQ1-Texas-Instruments-datasheet-149164899.pdf?src-supplier=Upverter; ComponentLink4URL: https://datasheet.octopart.com:443/DRV8873SPWPRQ1-Texas-Instruments-datasheet-163658173.pdf?src-supplier=SHENGYU+ELECTRONICS; ComponentLink4Description: https://datasheet.octopart.com:443/DRV8873SPWPRQ1-Texas-Instruments-datasheet-163658173.pdf?src-supplier=SHENGYU+ELECTRONICS; ComponentLink5URL: http://sigma.octopart.com:80/conflict_mineral_statement/Texas-Instruments-company-63.pdf?src-supplier=Compliance+Statements; ComponentLink5Description: http://sigma.octopart.com:80/conflict_mineral_statement/Texas-Instruments-company-63.pdf?src-supplier=Compliance+Statements; ComponentLink6URL: http://sigma.octopart.com:80/reach_statement/Texas-Instruments-company-64.pdf?src-supplier=Compliance+Statements; ComponentLink6Description: http://sigma.octopart.com:80/reach_statement/Texas-Instruments-company-64.pdf?src-supplier=Compliance+Statements; Supplier 1: DigiKey; Supplier Part Number 1: 296-50275-1-ND
footprint TSSOP-24-EP (24-Pin Ceramic Case, 0.65 mm pin pitch)
pins: 1 DVDD, 2 nFAULT, 3 SDO, 4 SDI, 5 SCLK, 6 nSCS, 7 EN/IN1, 8 PH/IN2, 9 DISABLE, 10 IPROPI1, 11 nSLEEP, 12 IPROPI2, 13 VM, 14 OUT2, 15 OUT2, 16 SRC, 17 SRC, 18 OUT1, 19 OUT1, 20 VM, 21 VCP, 22 CPH, 23 CPL, 24 GND, 25 EP

## DRV8889-Q1
designator U?, comment DRV8889QPWPRQ1
AUTOMOTIVE STEPPER DRIVER; Manufacturer: Texas Instruments; RoHS: Yes; Category: Integrated Circuits (ICs); Stock 1: 1016; Pricing 1: 1=4.62000, 10=4.15300, 25=3.92560, 100=3.40230, 250=3.22780, 500=2.89630, 1000=2.74882 (USD); Manufacturer Part Number: DRV8889QPWPRQ1; Case/Package: 24-TSSOP
footprint TSSOP-24-EP (24-Pin Ceramic Case, 0.65 mm pin pitch)
pins: 1 CPL, 2 CPH, 3 VCP, 4 VM, 5 PGND, 6 AOUT1, 7 AOUT2, 8 BOUT2, 9 BOUT1, 10 PGND, 11 VM, 12 GND, 13 DVDD, 14 nFAULT, 15 VREF, 16 nSCS, 17 VSDO, 18 SDO, 19 SDI, 20 SCLK, 21 STEP, 22 DIR, 23 DRVOFF, 24 nSLEEP, 25 PAD

## F28P650DK6NMRR_1
designator U?, comment F28P650DK6NMRR
C2000™ 32-bit MCU, 2x C28x+CLA CPU, Lock Step, 1.28-MB flash, 16-b ADC, HRPWM, EtherCAT, CAN-FD, AES 169-NFBGA -40 to...; Manufacturer: Texas Instruments; Manufacturer Lifecycle Status: ACTIVE; Number of UART Channels: 4; Supplier 1: DigiKey; Supplier Part Number 1: 296-F28P650DK6NMRRTR-ND; Supplier: DigiKey; Supplier Part Number: 296-F28P650DK6NMRRTR-ND; Manufacturer Part Number: F28P650DK6NMRR; RoHS: Compliant; Category: Microcontrollers; Pricing: 1000=11,46098 (USD); Height: 0m; Length: 9mm; Lifecycle Status: Production; Pins: 169; Thickness: 650µm; Width: 9mm; ComponentLink1URL: https://sigma.octopart.com:443/170336436/technical_drawing/Texas-Instruments-F28P650DK6NMRR.pdf?src-supplier=Texas+Instruments; ComponentLink1Description: https://sigma.octopart.com:443/170336436/technical_drawing/Texas-Instruments-F28P650DK6NMRR.pdf?src-supplier=Texas+Instruments; ComponentLink2URL: https://octopart.com:443/opatz8j6/c1?t=APRw11tpYPVjWCcH60awOXt0cGwImscANGC7li7_cx_Agxm915MhAZTObmDghc9eZOaw_mHD48OCZSRp73lGddKWUBe5fw7JdS3oY6-WaShYciiLLEgoA4x4huAl_qcDmd35tthWJciG_j9G0_KiT0SpOlZap5xOApFweMh2aZbGRedpPOVXVEDON4Icb6hkm9W7qm4-y49tBp6shpQILr3wInC47Ns5REcOk_fqp6GFBCGfdNNlvimY7LhF-z2TQJYRCUXuPMF8jbjKwibXb4IEVHm3troRaaxBm4vGhw5rMNpdyp6Yfknc0rFnvpyRKpgralAt9vXUJ0VNHXN8-zHJova3rwODBasGVAO6XlgY1J4nqzjFJr64ola8gSl7fMvjJfjBTM6KoBMDgg&src-supplier=Texas+Instruments; ComponentLink2Description: https://octopart.com:443/opatz8j6/c1?t=APRw11tpYPVjWCcH60awOXt0cGwImscANGC7li7_cx_Agxm915MhAZTObmDghc9eZOaw_mHD48OCZSRp73lGddKWUBe5fw7JdS3oY6-WaShYciiLLEgoA4x4huAl_qcDmd35tthWJciG_j9G0_KiT0SpOlZap5xOApFweMh2aZbGRedpPOVXVEDON4Icb6hkm9W7qm4-y49tBp6shpQILr3wInC47Ns5REcOk_fqp6GFBCGfdNNlvimY7LhF-z2TQJYRCUXuPMF8jbjKwibXb4IEVHm3troRaaxBm4vGhw5rMNpdyp6Yfknc0rFnvpyRKpgralAt9vXUJ0VNHXN8-zHJova3rwODBasGVAO6XlgY1J4nqzjFJr64ola8gSl7fMvjJfjBTM6KoBMDgg&src-supplier=Texas+Instruments; ComponentLink3URL: http://sigma.octopart.com:80/reach_statement/Texas-Instruments-company-64.pdf?src-supplier=Compliance+Statements; ComponentLink3Description: http://sigma.octopart.com:80/reach_statement/Texas-Instruments-company-64.pdf?src-supplier=Compliance+Statements; ComponentLink4URL: http://sigma.octopart.com:80/conflict_mineral_statement/Texas-Instruments-company-63.pdf?src-supplier=Compliance+Statements; ComponentLink4Description: http://sigma.octopart.com:80/conflict_mineral_statement/Texas-Instruments-company-63.pdf?src-supplier=Compliance+Statements
footprint NFBGA169 (9x9mm)
part A pins: A2 GPIO94, A3 GPIO93, A4 GPIO92, A5 GPIO6, A6 GPIO1, A7 GPIO85, A8 GPIO84, A9 GPIO104, A10 GPIO75, A11 GPIO72, A12 GPIO70, B1 GPIO12, B2 GPIO11, B3 GPIO10, B4 GPIO91, B5 GPIO7, B6 GPIO2, B7 GPIO86, B8 GPIO25, B9 GPIO79, B10 GPIO74, B11 GPIO71, B12 GPIO69, B13 GPIO68, C1 GPIO13, C2 GPIO14, C3 GPIO15, C4 GPIO16, C5 GPIO88, C6 GPIO3, C7 GPIO87, C8 GPIO83, C9 GPIO78, C10 GPIO73, C11 GPIO43, C12 GPIO42, D1 GPIO19, D2 GPIO22, D3 GPIO18, D4 GPIO17, D5 GPIO89, D6 GPIO4, D7 GPIO24, D8 GPIO82, D9 GPIO77, D10 GPIO103, D11 GPIO27, D12 XRSn, D13 GPIO220,X1, E1 GPIO20, E2 GPIO21, E3 GPIO8, E4 GPIO99, E5 GPIO90, E6 GPIO5, E7 GPIO0, E8 GPIO80, E9 GPIO76, E13 GPIO221,X2, F2 GPIO23, F3 GPIO9, F10 GPIO44, F11 GPIO45, F12 GPIO32, F13 GPIO133, G10 GPIO66, G11 GPIO65, G12 GPIO64, G13 GPIO63, H10 GPIO62, H11 GPIO61, H12 GPIO105, H13 GPIO59, J10 GPIO58, J11 GPIO57, J12 GPIO56, J13 GPIO55, K7 GPIO34, K8 GPIO28, K9 GPIO50, K10 GPIO51, K11 GPIO52, K12 GPIO53, K13 GPIO54, L7 GPIO33, L8 GPIO29, L9 GPIO30, L10 GPIO26, L11 GPIO38, L12 GPIO224/ERRORSTS, L13 GPIO49, M9 GPIO223/TDO, M10 TCK, M11 GPIO37, M12 GPIO41, M13 GPIO48, N8 GPIO35, N9 GPIO222/TDI, N10 TMS, N11 GPIO36, N12 GPIO40
part B pins: F1 C0,GPIO199, G1 C1,GPIO200, G2 C9,GPIO201, G3 C8,GPIO202, G4 C7,GPIO198, G5 C6,GPIO203, G6 C5,GPIO204, H1 A5, H2 A4, H3 A3, H4 C2, H5 C3,GPIO206, H6 C4,GPIO205, J3 A2, J4 B6,GPIO207, J5 A6,GPIO209, J6 A8,GPIO211, K3 A1, K4 B7,GPIO208, K5 A7,GPIO210, K6 A9,GPIO212, L3 A0/DACA_OUT, L4 B3, L5 A10,GPIO213, L6 A11,GPIO214, M1 A14/B14/C14, M2 A15/B15/C15, M3 B2, M6 B4,GPIO215, M7 B8,GPIO217, N2 B0/VDAC, N3 B1/DACC_OUT, N6 B5/GPIO216, N7 B9/GPIO218
part C pins: A1 VSS, A13 VSS, C13 VDDIO, E10 VREGENZ, E11 VDDOSC, E12 VSSOSC, F4 VDDIO, F5 VDD, F6 VDDIO, F7 VDD, F8 VDDIO, F9 VSS, G7 VSS, G8 VSS, G9 VDD, H7 VSS, H8 VSS, H9 VDDIO, J1 VREFLOC, J2 VREFHIC, J7 VSS, J8 VDDIO, J9 VDD, K1 VREFLOA, K2 VREFHIA, L1 VSSA, L2 VDDA, M4 VREFHIB, M5 VDDA, M8 VDD3FL, N1 VSSA, N4 VREFLOB, N5 VSSA, N13 VSS

## FXL6408
designator U?, comment FXL6408UMX
FXL6408 Series 1.65 to 4 V Open Drain 8-Bit I2C-Controlled GPIO Expander-UMLP-16; Manufacturer: onsemi; Manufacturer Lifecycle Status: ACTIVE; Frequency: 400kHz; Interface: I2C; Max Junction Temperature (Tj): 150°C; Max Supply Voltage: 3.6V; Min Supply Voltage: 1.65V; Nominal Supply Current: 300µA; Number of I/Os: 8; Number of Ports: 1; Operating Supply Voltage: 1.8V; Output Current: 6mA; Supplier 1: DigiKey; Supplier Part Number 1: FXL6408UMXCT-ND; Supplier: DigiKey; Supplier Part Number: FXL6408UMXCT-ND; Manufacturer Part Number: FXL6408UMX; RoHS: Compliant; Category: I/O Expanders; Stock: 53995; Pricing: 1=0,55, 10=0,386, 25=0,3452, 100=0,3007, 250=0,27932, 500=0,26646, 1000=0,25588, 2500=0,2447 (USD); Ambient Temperature Range High: 85°C; China RoHS: Compliant; Height: 550µm; Height - Seated (Max): 550µm; Lead Free: Lead Free; Length: 2.6mm; Lifecycle Status: Production; Clock Frequency: 400kHz; Max Operating Temperature: 85°C; Min Operating Temperature: -40°C; Mounting Technology: Surface Mount; Pins: 16; Number of Terminals: 16; REACH SVHC: Yes; Schedule B: 8542390000, 8542390000|8542390000|8542390000|8542390000|8542390000; Terminal Pitch: 400µm; Weight: 6.54mg; Width: 1.8mm; ComponentLink1URL: https://datasheet.octopart.com:443/FXL6408UMX-ON-Semiconductor-datasheet-137357745.pdf?src-supplier=JRH+Electronics; ComponentLink1Description: https://datasheet.octopart.com:443/FXL6408UMX-ON-Semiconductor-datasheet-137357745.pdf?src-supplier=JRH+Electronics; ComponentLink2URL: https://datasheet.octopart.com:443/FXL6408UMX-onsemi-datasheet-180960890.pdf?src-supplier=IHS; ComponentLink2Description: https://datasheet.octopart.com:443/FXL6408UMX-onsemi-datasheet-180960890.pdf?src-supplier=IHS; ComponentLink3URL: https://datasheet.octopart.com:443/FXL6408UMX-ON-Semiconductor-datasheet-17289508.pdf?src-supplier=IHS; ComponentLink3Description: https://datasheet.octopart.com:443/FXL6408UMX-ON-Semiconductor-datasheet-17289508.pdf?src-supplier=IHS; ComponentLink4URL: https://sigma.octopart.com:443/138706068/technical_drawing/ON-Semiconductor-FXL6408UMX.pdf?src-supplier=Upverter; ComponentLink4Description: https://sigma.octopart.com:443/138706068/technical_drawing/ON-Semiconductor-FXL6408UMX.pdf?src-supplier=Upverter; ComponentLink5URL: https://datasheet.octopart.com:443/FXL6408UMX-ON-Semiconductor-datasheet-85553810.pdf?src-supplier=onsemi; ComponentLink5Description: https://datasheet.octopart.com:443/FXL6408UMX-ON-Semiconductor-datasheet-85553810.pdf?src-supplier=onsemi; ComponentLink6URL: https://datasheet.octopart.com:443/FXL6408UMX-ON-Semiconductor-datasheet-86697188.pdf?src-supplier=onsemi; ComponentLink6Description: https://datasheet.octopart.com:443/FXL6408UMX-ON-Semiconductor-datasheet-86697188.pdf?src-supplier=onsemi; ComponentLink7URL: https://datasheet.octopart.com:443/FXL6408UMX-onsemi-datasheet-164414455.pdf?src-supplier=Augswan; ComponentLink7Description: https://datasheet.octopart.com:443/FXL6408UMX-onsemi-datasheet-164414455.pdf?src-supplier=Augswan; ComponentLink8URL: https://sigma.octopart.com:443/33173499/technical_drawing/Fairchild-Semiconductor-FXL6408UMX.pdf?src-supplier=Fairchild+Semiconductor; ComponentLink8Description: https://sigma.octopart.com:443/33173499/technical_drawing/Fairchild-Semiconductor-FXL6408UMX.pdf?src-supplier=Fairchild+Semiconductor; ComponentLink9URL: https://sigma.octopart.com:443/17351251/technical_drawing/Fairchild-Semiconductor-FXL6408UMX.pdf?src-supplier=Fairchild+Semiconductor; ComponentLink9Description: https://sigma.octopart.com:443/17351251/technical_drawing/Fairchild-Semiconductor-FXL6408UMX.pdf?src-supplier=Fairchild+Semiconductor; ComponentLink10URL: http://sigma.octopart.com:80/150611660/rohs_statement/ON-Semiconductor-FXL6408UMX.pdf?src-supplier=Compliance+Statements; ComponentLink10Description: http://sigma.octopart.com:80/150611660/rohs_statement/ON-Semiconductor-FXL6408UMX.pdf?src-supplier=Compliance+Statements; ComponentLink11URL: http://sigma.octopart.com:80/17289509/reach_statement/Fairchild-Semiconductor-FXL6408UMX.pdf?src-supplier=Compliance+Statements; ComponentLink11Description: http://sigma.octopart.com:80/17289509/reach_statement/Fairchild-Semiconductor-FXL6408UMX.pdf?src-supplier=Compliance+Statements; ComponentLink12URL: http://sigma.octopart.com:80/17351973/materials_sheet/Fairchild-Semiconductor-FXL6408UMX.pdf?src-supplier=Compliance+Statements; ComponentLink12Description: http://sigma.octopart.com:80/17351973/materials_sheet/Fairchild-Semiconductor-FXL6408UMX.pdf?src-supplier=Compliance+Statements; ComponentLink13URL: http://sigma.octopart.com:80/17351972/rohs_statement/Fairchild-Semiconductor-FXL6408UMX.pdf?src-supplier=Compliance+Statements; ComponentLink13Description: http://sigma.octopart.com:80/17351972/rohs_statement/Fairchild-Semiconductor-FXL6408UMX.pdf?src-supplier=Compliance+Statements; ComponentLink14URL: http://sigma.octopart.com:80/17289510/rohs_statement/Fairchild-Semiconductor-FXL6408UMX.pdf?src-supplier=Compliance+Statements; ComponentLink14Description: http://sigma.octopart.com:80/17289510/rohs_statement/Fairchild-Semiconductor-FXL6408UMX.pdf?src-supplier=Compliance+Statements; ComponentLink15URL: http://sigma.octopart.com:80/33178268/reach_statement/Fairchild-Semiconductor-FXL6408UMX.pdf?src-supplier=Compliance+Statements; ComponentLink15Description: http://sigma.octopart.com:80/33178268/reach_statement/Fairchild-Semiconductor-FXL6408UMX.pdf?src-supplier=Compliance+Statements; ComponentLink16URL: http://sigma.octopart.com:80/33178269/materials_sheet/Fairchild-Semiconductor-FXL6408UMX.pdf?src-supplier=Compliance+Statements; ComponentLink16Description: http://sigma.octopart.com:80/33178269/materials_sheet/Fairchild-Semiconductor-FXL6408UMX.pdf?src-supplier=Compliance+Statements; ComponentLink17URL: http://sigma.octopart.com:80/reach_statement/ON-Semiconductor-company-79.pdf?src-supplier=Compliance+Statements; ComponentLink17Description: http://sigma.octopart.com:80/reach_statement/ON-Semiconductor-company-79.pdf?src-supplier=Compliance+Statements; ComponentLink18URL: http://sigma.octopart.com:80/reach_statement/Fairchild-Semiconductor-company-9.pdf?src-supplier=Compliance+Statements; ComponentLink18Description: http://sigma.octopart.com:80/reach_statement/Fairchild-Semiconductor-company-9.pdf?src-supplier=Compliance+Statements; ComponentLink19URL: http://sigma.octopart.com:80/rohs_statement/Fairchild-Semiconductor-company-10.pdf?src-supplier=Compliance+Statements; ComponentLink19Description: http://sigma.octopart.com:80/rohs_statement/Fairchild-Semiconductor-company-10.pdf?src-supplier=Compliance+Statements; ComponentLink20URL: http://sigma.octopart.com:80/rohs_statement/Fairchild-Semiconductor-company-11.pdf?src-supplier=Compliance+Statements; ComponentLink20Description: http://sigma.octopart.com:80/rohs_statement/Fairchild-Semiconductor-company-11.pdf?src-supplier=Compliance+Statements; ComponentLink21URL: https://octopart.com:443/opatz8j6/c1?t=9YB1AZBYE-sXEizKn0py3zX9j1M05Gk0yrfk0hzfSruB06j5fax9-1SjUbutGBGBJOlAp5F0JSkPMRBylfD7rkLc7xALWF52og5RY-SsRfckgfrkjcpOuse6lPMJBKQyVI1DL_VzPPSFq9zBfErL6jYwbNOy_BxN-2ynKSI2Xgn4CpoUUOUgQwLl3QxCnkdGXYCJzSFwUtnVQa8C8pnLVloJd98I_WncE3wWbDpV7cSl2TjdstVf4LJiP0fKo59ZVAFWGT-jbXU0Cx9etyrznbN-GNeu9jJq836Ki4ph0wwwtZ0IG6NZ5LmhDVVLEkmTU3PnEH_ZCDmWWdGdDTqSLnwF5g1upAIMxhYS7Q&src-supplier=Compliance+Statements; ComponentLink21Description: https://octopart.com:443/opatz8j6/c1?t=9YB1AZBYE-sXEizKn0py3zX9j1M05Gk0yrfk0hzfSruB06j5fax9-1SjUbutGBGBJOlAp5F0JSkPMRBylfD7rkLc7xALWF52og5RY-SsRfckgfrkjcpOuse6lPMJBKQyVI1DL_VzPPSFq9zBfErL6jYwbNOy_BxN-2ynKSI2Xgn4CpoUUOUgQwLl3QxCnkdGXYCJzSFwUtnVQa8C8pnLVloJd98I_WncE3wWbDpV7cSl2TjdstVf4LJiP0fKo59ZVAFWGT-jbXU0Cx9etyrznbN-GNeu9jJq836Ki4ph0wwwtZ0IG6NZ5LmhDVVLEkmTU3PnEH_ZCDmWWdGdDTqSLnwF5g1upAIMxhYS7Q&src-supplier=Compliance+Statements; ComponentLink22URL: https://octopart.com:443/opatz8j6/c1?t=Dxhb7BIF_k9crA6OSvstyc8pgzmLXI0c-8seLF5EwaD-YjeDmRh6XEqf8riGQmt0ioAkf5_bIt3wISWaFBjYWy_QtoLrYN4dQXX6ghGM08nIDZkPgK-gnZXLC9kOXn5PY4xmfOQscyJGCMrABZ6mOONXWWyPfSVXUV9-Lvq7OtijTDI2qzz7SbfBqgKJqNu1e60lIEHOLwIeSJSZzPAR1aE49oAkjLzHi3Cszr2W0ZhKZYqkkXF-YaBGsp80TLdLraiWCwORJCFI5tnGRcHeYtRa7nF7G6F-k0XTFbilowv9IzwhHbMaGd4iNWhmEm0SAaO8M4evs8L3afFb4JG_EWMth-iVNfYruJUVVAw&src-supplier=Compliance+Statements; ComponentLink22Description: https://octopart.com:443/opatz8j6/c1?t=Dxhb7BIF_k9crA6OSvstyc8pgzmLXI0c-8seLF5EwaD-YjeDmRh6XEqf8riGQmt0ioAkf5_bIt3wISWaFBjYWy_QtoLrYN4dQXX6ghGM08nIDZkPgK-gnZXLC9kOXn5PY4xmfOQscyJGCMrABZ6mOONXWWyPfSVXUV9-Lvq7OtijTDI2qzz7SbfBqgKJqNu1e60lIEHOLwIeSJSZzPAR1aE49oAkjLzHi3Cszr2W0ZhKZYqkkXF-YaBGsp80TLdLraiWCwORJCFI5tnGRcHeYtRa7nF7G6F-k0XTFbilowv9IzwhHbMaGd4iNWhmEm0SAaO8M4evs8L3afFb4JG_EWMth-iVNfYruJUVVAw&src-supplier=Compliance+Statements
footprint UQFN16(1.8x2.6) (UQFN16 1.80x2.60x0.50, 0.40P)
pins: 1 ~{INT}, 2 VDDIO, 3 GPIO7, 4 GPIO6, 5 GPIO5, 6 GPIO4, 7 GPIO3, 8 GPIO2, 9 ADDR, 10 ~{RST}, 11 GPIO1, 12 GPIO0, 13 SCL, 14 SDA, 15 VCC, 16 GND